# Altium schematic symbol library Relay.SchLib: 1 symbol
Pins are listed as number, name and electrical type; pins without a type are passive.

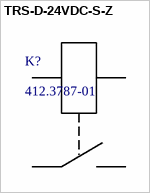
[diagram p0: symbol TRS-D-24VDC-S-Z]

## TRS-D-24VDC-S-Z
designator K?, comment 412.3787-01
Реле 412.3787-01 24В 100А (Энергомаш); HelpURL: https://www.12vi.ru/765/1083/1253/6721.html; Model: 412.3787-01 24В; Manufacture: Энергомаш; Value: 412.3787-01; Name: Реле
pins: 1, 2, 3, 4